# Altium schematic symbol library Discrete.SchLib: 14 symbols
Pins are listed as number, name and electrical type; pins without a type are passive.

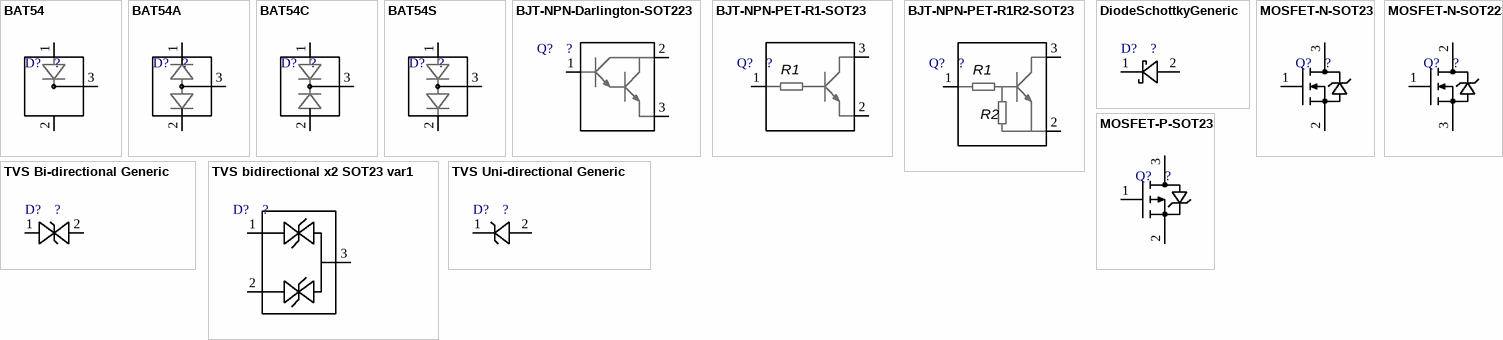
[diagram p0: symbols BAT54 to TVS Uni-directional Generic]

## BAT54
designator D?, comment ?
Name: ?
pins: 1, 2, 3

## BAT54A
designator D?, comment ?
Name: ?
pins: 1, 2, 3

## BAT54C
designator D?, comment ?
Name: ?
pins: 1, 2, 3

## BAT54S
designator D?, comment ?
Name: ?
pins: 1, 2, 3

## BJT-NPN-Darlington-SOT223
designator Q?, comment ?
Name: ?
pins: 1, 2, 3

## BJT-NPN-PET-R1-SOT23
designator Q?, comment ?
Name: ?
pins: 1, 2, 3
text: R1

## BJT-NPN-PET-R1R2-SOT23
designator Q?, comment ?
Name: ?
pins: 1, 2, 3
text: R1; R2

## DiodeSchottkyGeneric
designator D?, comment ?
Name: ?
pins: 1, 2

## MOSFET-N-SOT23
designator Q?, comment ?
Name: ?
pins: 1, 2, 3

## MOSFET-N-SOT223
designator Q?, comment ?
Name: ?
pins: 1, 2, 3

## MOSFET-P-SOT23
designator Q?, comment ?
Name: ?
pins: 1, 2, 3

## TVS Bi-directional Generic
designator D?, comment ?
Name: ?
pins: 1, 2

## TVS bidirectional x2 SOT23 var1
designator D?, comment ?
Name: ?
pins: 1, 2, 3

## TVS Uni-directional Generic
designator D?, comment ?
Name: ?
pins: 1, 2